# EAGLE library part 3310 (library 3310)
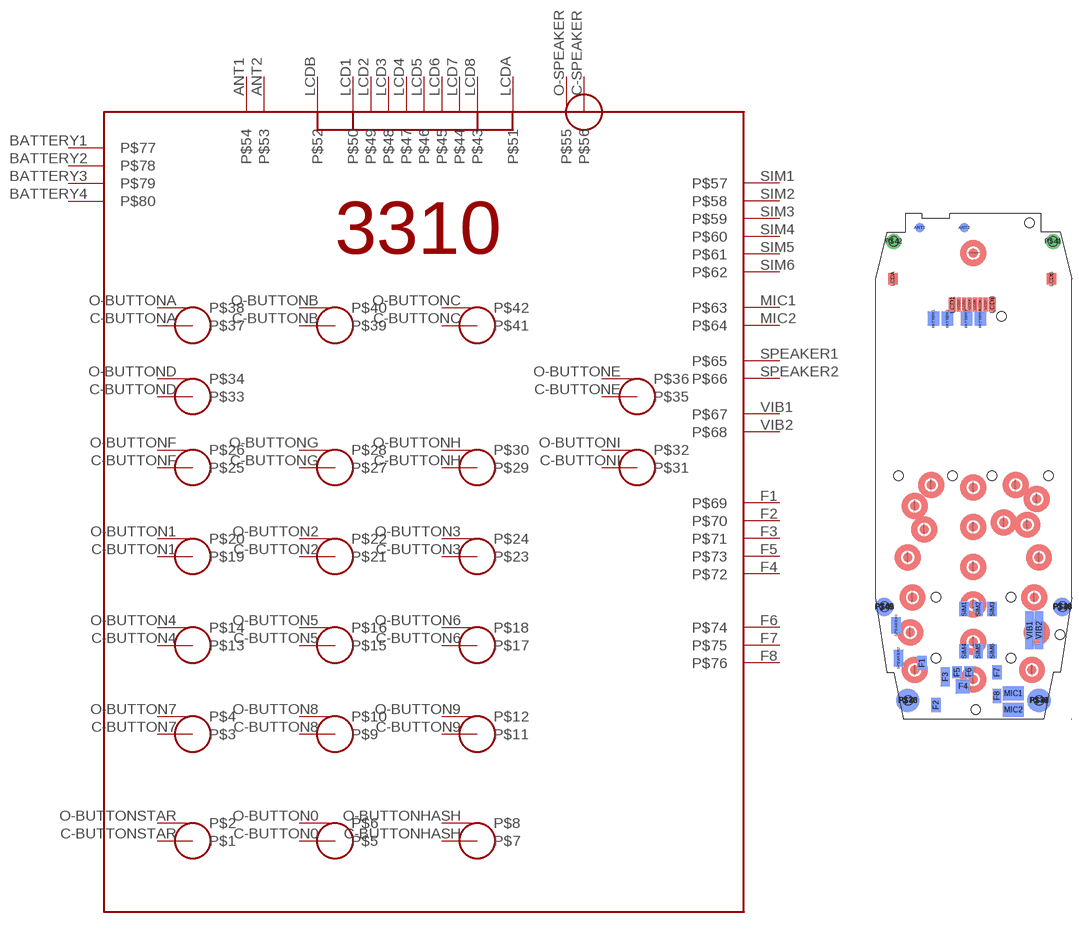
[diagram p0: symbol with the pads of 3310; footprint 3310]

Designator prefix -

## 3310  [3310]
ANT1  P$54
ANT2  P$53
BATTERY1  P$77
BATTERY2  P$78
BATTERY3  P$79
BATTERY4  P$80
C-BUTTON0  P$5
C-BUTTON1  P$19
C-BUTTON2  P$21
C-BUTTON3  P$23
C-BUTTON4  P$13
C-BUTTON5  P$15
C-BUTTON6  P$17
C-BUTTON7  P$3
C-BUTTON8  P$9
C-BUTTON9  P$11
C-BUTTONA  P$37
C-BUTTONB  P$39
C-BUTTONC  P$41
C-BUTTOND  P$33
C-BUTTONE  P$35
C-BUTTONF  P$25
C-BUTTONG  P$27
C-BUTTONH  P$29
C-BUTTONHASH  P$7
C-BUTTONI  P$31
C-BUTTONSTAR  P$1
C-SPEAKER  P$56
F1  P$69
F2  P$70
F3  P$71
F4  P$72
F5  P$73
F6  P$74
F7  P$75
F8  P$76
LCD1  P$50
LCD2  P$49
LCD3  P$48
LCD4  P$47
LCD5  P$46
LCD6  P$45
LCD7  P$44
LCD8  P$43
LCDA  P$51
LCDB  P$52
MIC1  P$63
MIC2  P$64
O-BUTTON0  P$6
O-BUTTON1  P$20
O-BUTTON2  P$22
O-BUTTON3  P$24
O-BUTTON4  P$14
O-BUTTON5  P$16
O-BUTTON6  P$18
O-BUTTON7  P$4
O-BUTTON8  P$10
O-BUTTON9  P$12
O-BUTTONA  P$38
O-BUTTONB  P$40
O-BUTTONC  P$42
O-BUTTOND  P$34
O-BUTTONE  P$36
O-BUTTONF  P$26
O-BUTTONG  P$28
O-BUTTONH  P$30
O-BUTTONHASH  P$8
O-BUTTONI  P$32
O-BUTTONSTAR  P$2
O-SPEAKER  P$55
SIM1  P$57
SIM2  P$58
SIM3  P$59
SIM4  P$60
SIM5  P$61
SIM6  P$62
SPEAKER1  P$65
SPEAKER2  P$66
VIB1  P$67
VIB2  P$68

## Footprint 3310 (pad centres in mm)
smd 2 x 2 bottom: ANT1 9.5,105; ANT2 19,105
smd 2.5 x 3 bottom: BATTERY1 12.5,85.5; BATTERY2 15.5,85.5; BATTERY3 19.5,85.5; BATTERY4 22.5,85.5
smd 2 x 2: C-BUTTON0 21,8.5; C-BUTTON1 7,34.5; C-BUTTON2 21,32.5; C-BUTTON3 35,34.5; C-BUTTON4 8,26; C-BUTTON5 21,24.5; C-BUTTON6 34,26; C-BUTTON7 7.5,18.5; C-BUTTON8 21,16.5; C-BUTTON9 34.5,18.5; C-BUTTONA 12,50; C-BUTTONB 21,49.5; C-BUTTONC 30,50; C-BUTTOND 8.5,45.5; C-BUTTONE 34.5,47; C-BUTTONF 10.5,40.5; C-BUTTONG 21,41; C-BUTTONH 27.5,42; C-BUTTONHASH 33.5,10.5; C-BUTTONI 32.5,41.5; C-BUTTONSTAR 8.5,10.5; C-SPEAKER 21,99.5
smd 2 x 3 bottom: F1 10,12; F2 13,3; F7 26,10; SIM1 19,23.5; SIM2 22,23.5; SIM3 25,23.5; SIM4 19,14.5; SIM5 22,14.5; SIM6 25,14.5
smd 2 x 4 bottom: F3 15,9
smd 3 x 3 bottom: F4 18.75,7
smd 2 x 2.5 bottom: F5 17.5,10; F6 20,10
smd 1.8 x 3 bottom: F8 26,5
smd 1.5 x 3: LCD1 16.5,88.5; LCD8 25,88.5
smd 0.9 x 3: LCD2 17.875,88.5; LCD3 19.025,88.5; LCD4 20.175,88.5; LCD5 21.325,88.5; LCD6 22.45,88.5; LCD7 23.58,88.5
smd 2 x 2.5: LCDA 3.8,94; LCDB 37.7,94
smd 4.5 x 3 bottom: MIC1 29.5,5.5; MIC2 29.5,2
smd 1.27 x 0.635: O-BUTTON0 20.828,6.604; O-BUTTON1 6.858,32.512; O-BUTTON2 20.828,30.48; O-BUTTON3 35.052,32.766; O-BUTTON4 7.874,24.13; O-BUTTON5 21.082,22.606; O-BUTTON6 34.29,24.13; O-BUTTON7 7.112,16.51; O-BUTTON8 20.828,14.732; O-BUTTON9 34.544,16.51; O-BUTTONA 11.938,48.006; O-BUTTONB 21.082,47.498; O-BUTTONC 29.972,47.752; O-BUTTOND 8.382,43.434; O-BUTTONE 34.798,45.212; O-BUTTONF 10.414,38.608; O-BUTTONG 20.828,39.116; O-BUTTONH 27.686,40.132; O-BUTTONHASH 33.274,8.382; O-BUTTONI 32.766,39.37; O-BUTTONSTAR 8.636,8.382; O-SPEAKER 21.59,97.79
smd 4 x 4 bottom: P$18 40,24; P$45 2,24; P$46 40,24; P$69 2,24
drill 2 pad 3.2: P$37 7,4; P$38 35,4; P$39 40,24; P$40 2,24; P$41 38,102; P$42 4,102
smd 5 x 5 bottom: P$43 7,4; P$44 35,4; P$70 7,4; P$71 35,4
smd 2 x 3.5 bottom: SPEAKER1 4.5,20; SPEAKER2 5,13
smd 1.8 x 8 bottom: VIB1 33,19; VIB2 35,19
hole 2 at 27,86
hole 2 at 4,102
hole 2 at 38,102
hole 2 at 5,52
hole 2 at 16.5,52
hole 2 at 25,52
hole 2 at 37,52
hole 2 at 13,26
hole 2 at 29,26
hole 2 at 29,13
hole 2 at 13,13
hole 2 at 7,4
hole 2 at 35,4
hole 2 at 40,24
hole 2 at 2,24
hole 2 at 21.5,2
hole 2 at 39.5,18
hole 2 at 33,106